# Altium schematic symbol library painel_meb.SCHLIB: 16 symbols
Pins are listed as number, name and electrical type; pins without a type are passive.

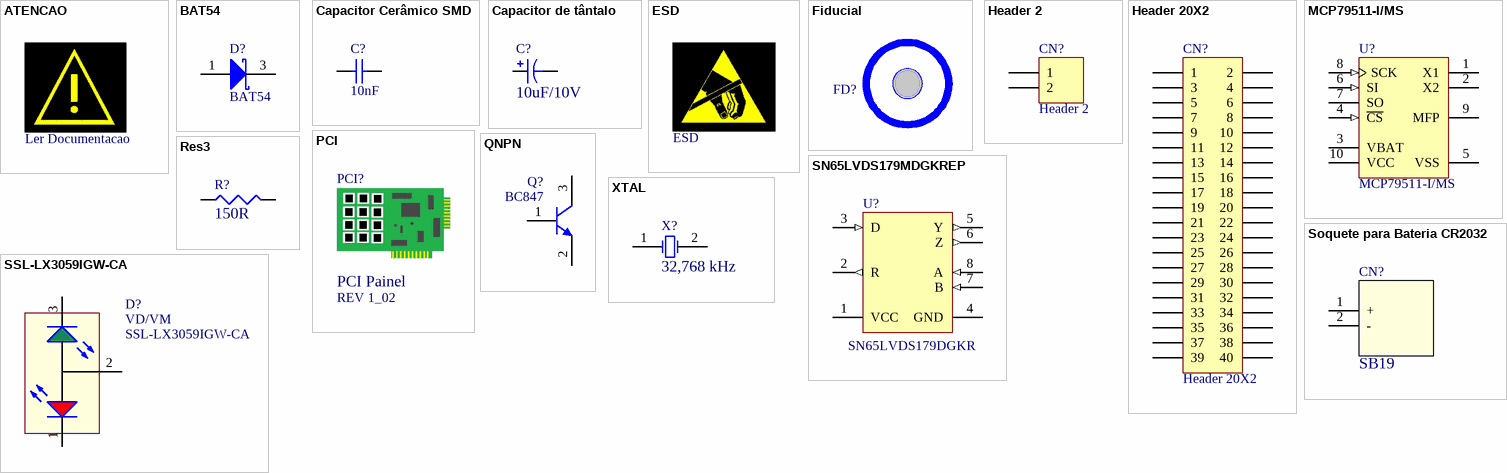
[diagram p0: symbols ATENCAO to XTAL]

## ATENCAO
designator AT?, comment Valor: Ler Documentacao  (hidden comment: ##nl)
ATENCAO
footprint LEIA_DOCUMENTACAO

## BAT54
designator D?, comment Part number: BAT54  (hidden comment: 04.0100)
Diodo Schottky; Fabricante: FAIRCHILD; Grupo: 04
footprint SOT23-3N - BAT54FAIRCHILD (SOT23, 3-Leads, Body 2.9x1.3mm, Pitch 0.95mm, Lead Span 2.5mm, IPC Medium Density)
pins: 1 A, 3 K

## Capacitor Cerâmico SMD
designator C?  Valor: 10nF  (hidden comment: Capacitor Cerâmico SMD)
footprint C0805 (Chip Capacitor; Body 2.0 x 1.2 mm (LxW typ))
footprint 1812 (Chip Capacitor; Body 4.5 x 3.2 mm (LxW typ))
footprint 1825 (Chip Capacitor; Body 4.5 x 6.4 mm (LxW typ))
footprint C2225 (Chip Capacitor; Body 5.6 x 6.4 mm (LxW typ))
footprint 2220 (Chip Capacitor; Body 5.7 x 5.0 mm (LxW typ))
footprint 0603 - CAP (Chip Capacitor, 2-Leads, Body 1,6x0,8mm, IPC Medium Density)
footprint 0805(cap)
footprint 1206 - CAP (Capacitor)
footprint 0402 (Chip Capacitor; Body 1.0 x 0.5 mm (LxW typ))
footprint 0603 - CAP - montagem na maquina (Chip Capacitor, 2-Leads, Body 1,6x0,8mm, IPC Medium Density)
pins: 1, 2
1 alternate drawing of the same symbol

## Capacitor de tântalo
designator C?  Valor: 10uF/10V  (hidden comment: Capacitor de tântalo)
Grupo: 02
footprint CASE-A (Capacitor de tântalo)
footprint CASE-B (Capacitor de tântalo)
footprint CASE-D (Molded Capacitor, 2-Leads, Body 7,3x4,3mm, IPC Low Density)
footprint CASE-E (Molded Capacitor, 2-Leads, Body 7,3x4,3mm, IPC Low Density)
footprint CASE-C (Chip Capacitor, 2-Leads, Body 6,0x3,2mm, IPC Medium Density)
pins: 1, 2
1 alternate drawing of the same symbol

## ESD
designator ESD?, comment ##nl  (value not drawn)
ESD; Valor: ESD
footprint ESTATICA

## Fiducial
designator FD?, comment ##nl  (value not drawn)
Fiducial; Valor: *
footprint FIDUCIAL

## Header 2
designator CN?
Header, 2-Pin; LatestRevisionDate: 17-Jul-2002; LatestRevisionNote: Re-released for DXP Platform.; Publisher: Altium Limited
footprint HDR1X2 (Connector; Header; 2 Position)
signal-integrity model Connector
footprint 2 vias - 2,54mm (Connector; Header; 13 Position)
pins: 1, 2

## Header 20X2
designator CN?
Header, 20-Pin, Dual row; LatestRevisionDate: 17-Jul-2002; LatestRevisionNote: Re-released for DXP Platform.; Publisher: Altium Limited
footprint HDR2X20 (Connector; Header; 20x2 Position)
signal-integrity model Connector
pins: 1, 2, 3, 4, 5, 6, 7, 8, 9, 10, 11, 12, 13, 14, 15, 16, 17, 18, 19, 20, 21, 22, 23, 24, 25, 26, 27, 28, 29, 30, 31, 32, 33, 34, 35, 36, 37, 38, 39, 40

## MCP79511-I/MS
designator U?
3 V SPI Real-Time Clock Calendar with Battery Switchover, 10 MHz Communications Speed, 64 Bytes SRAM, -40 to 85 degC, 10-pin MSOP (MS10), Tube; Manufacturer: Microchip; DatasheetVersion: Rev. A; PackageVersion: C04-021C; PackageReference: MSOP-MS10; PackageDescription: 10-Lead Plastic Micro Small Outline Package, 3 x 3 mm Body, 0.5 mm Pitch; Supplier 1: Digi-Key; Supplier Part Number 1: MCP79511-I/MS-ND; Supplier 2: Newark; Supplier Part Number 2: 47T5349; Supplier 3: Mouser; Supplier Part Number 3: 579-MCP79511-I/MS; Mounting Technology: Surface Mount; PartNumber: MCP79511-I/MS; ComponentLink1Description: Manufacturer URL; ComponentLink1URL: http://www.microchip.com; ComponentLink2Description: Datasheet; ComponentLink2URL: http://ww1.microchip.com/downloads/en/DeviceDoc/22300A.pdf; ComponentLink3Description: Package Specification; ComponentLink3URL: http://www.microchip.com/stellent/groups/techpub_sg/documents/packagingspec/en012702.pdf; ComponentLink4Description: Product URL; ComponentLink4URL: http://www.microchip.com/MCP79511
footprint MCHP-MSOP-MS10_N (SOP, 10-Leads, Body 3x3mm, Pitch 0.5mm, IPC Medium Density)
footprint MCHP-MSOP-MS10_L (SOP, 10-Leads, Body 3x3mm, Pitch 0.5mm, IPC High Density)
footprint MCHP-MSOP-MS10_M (SOP, 10-Leads, Body 3x3mm, Pitch 0.5mm, IPC Low Density)
pins: 1 X1 "Xtal Input, External Oscillator Input", 2 X2 "Xtal Output", 3 VBAT (power) "Battery Backup Input (3V Typ)", 4 ~{CS} (in) "Chip Select", 5 VSS (power) "Ground", 6 SI (in) "Serial Input", 7 SO (hiz) "Serial Output", 8 SCK (in) "Serial Clock", 9 MFP (oc) "Multifunction Pin", 10 VCC (power) "+1.8V to +3.6V Power Supply"

## PCI
designator PCI?, comment Valor: PCI Painel  Rev: REV 1_02  (hidden comment: 30.????)
PCI

## QNPN
designator Q?  (value not drawn)
NPN Bipolar Transistor; Valor: BC847; Published: 8-Jun-2000; LatestRevisionDate: 17-Jul-2002; LatestRevisionNote: Re-released for DXP Platform.; PackageReference: SOT-23B; Publisher: Altium Limited; Code_JEDEC: SOT-23
footprint SOT-23B (SOT-23; 3 Leads; Body 3.0 x 2.6 mm, inc. leads (LxW max))
simulation model QNPN (NPN)
signal-integrity model NPN
pins: 1 B, 2 E, 3 C

## Res3
designator R?  Valor: 150R  (hidden comment: Res3)
Resistor; Grupo: 01
footprint 3225[1210] (Chip Resistor; Body 3.2 x 2.5 mm (LxW typ))
footprint 6332[2512] (Chip Resistor; Body 6.3 x 3.2 mm (LxW typ))
footprint 0603 (Chip Resistor, 2-Leads, Body 1,6x0,8mm, IPC Medium Density)
footprint 1206 (Resistor)
footprint CR-12 (RESISTOR CR-12)
footprint 0805(res)
footprint 2512 (Resistor)
footprint 0402 - RESISTOR (RESISTOR)
footprint 5025[2010] (Chip Resistor; Body 5.0 x 2.5 mm (LxW typ))
footprint PR01
footprint CR25 (RESISTOR CR-25)
footprint 0603 - MONTAGEM MÁQUINA (Chip Resistor, 2-Leads, Body 1,6x0,8mm, IPC Medium Density)
footprint PR02
footprint PR03
footprint 2010
footprint PR02 - EM PÉ
footprint PR05-QUAD EM PÉ
footprint PR05 - EM PÉ (Res 5W)
footprint PR05
footprint PR03 - EM PÉ
footprint CR-25 EM PÉ
pins: 1, 2

## SN65LVDS179MDGKREP
designator U?  PartNumber: SN65LVDS179DGKR  (hidden comment: SN65LVDS179MDGKREP)
400 Mbps Enhanced Product High-Speed Differential Line Driver and Receiver with LVDS, LVTTL Input and LVDS, LVTTL Output, 1 Tx and 1 Rx, -55 to +125 degC, 8-pin VSSOP (DGK), Green (RoHS & no Sb/Br); Manufacturer: Texas Instruments; ESD HBM(kV): 12; Function: Transceiver; No. of Rx: 1; Signaling Rate(Mbps): 400; SubFamily: LVDS PHY (<800Mbps); DatasheetVersion: SGLS203B; PackageVersion: revE, May-2006; PackageReference: DGK8; PackageDescription: 8-Pin Thin Small Outline Package 3 x 3 mm Body ,0.65 mm Pitch; Supplier 1: Digi-Key; Supplier Part Number 1: 296-22243-2-ND; Supplier 2: Digi-Key; Supplier Part Number 2: 296-22243-1-ND; Supplier 3: Digi-Key; Supplier Part Number 3: 296-22243-6-ND; Supplier 4: Newark; Supplier Part Number 4: 45M9838; Supplier 5: Mouser; Supplier Part Number 5: 595-65LVDS179MDGKREP; Eco-Plan: Green (RoHS & no Sb/Br); ICC(Max)(mA): 12; Input Signal: LVDS, LVTTL; No. of Tx: 1; Output Signal: LVDS, LVTTL; Mounting Technology: Surface Mount; Code_JEDEC: MO-187-AA; ComponentLink1Description: Datasheet; ComponentLink1URL: http://www.ti.com/general/docs/lit/getliterature.tsp?genericPartNumber=SN65LVDS179-EP&fileType=pdf; ComponentLink2Description: URL Link1; ComponentLink2URL: SamplesURL:http://www.ti.com/product/sn65lvds179-ep#samples
footprint DGK8_N (TSOP, 8-Leads, Body 3x3mm, Pitch 0.65mm, IPC Medium Density)
footprint DGK8_L (TSOP, 8-Leads, Body 3x3mm, Pitch 0.65mm, IPC High Density)
footprint DGK8_M (TSOP, 8-Leads, Body 3x3mm, Pitch 0.65mm, IPC Low Density)
pins: 1 VCC (power), 2 R (out), 3 D (in), 4 GND (power), 5 Y (out), 6 Z (out), 7 B (in), 8 A (in)

## Soquete para Bateria CR2032
designator CN?, comment Part number: SB19  (hidden comment: 11.0137)
Soquete para Bateria CR2032; Fabricante: METALTEX; Grupo: 11; Encapsulamento: CR2032; Datasheet: \\servidor\arquivo\Eletronica\Componentes\SB19.pdf
footprint Soquete para bateria SB19 (Soquete para bateria SB19 CR2032)
pins: 1 +, 2 -

## SSL-LX3059IGW-CA
designator D?  Valor: VD/VM  (hidden comment: SSL-LX3059IGW-CA)
Led bicolor pth 3mm verde/vermelho; Grupo: 09; Fabricante: *; Fornecedor: *; Obs: *; Datasheet: *; Encapsulamento: 3mm; Part Number: SSL-LX3059IGW-CA
footprint Led 3mm bicolor
pins: 1 KR, 2 A, 3 KG

## XTAL
designator X?  Valor: 32,768 kHz  (hidden comment: XTAL)
Cristal oscilador; Encapsulamento: HC-49/S; Fabricante: HIB; Grupo: 06; Published: 8-Jun-2000; LatestRevisionDate: 17-Jul-2002; LatestRevisionNote: Re-released for DXP Platform.; PackageReference: R38; Publisher: Altium Limited; Fornecedor: HIB; Datasheet: \\servidor\arquivo\Eletronica\Componentes\hc-49-sseries.pdf
footprint R38 (Crystal, Thru-Hole; 2 Leads; Body 3.1 x 8.2 mm (Dia.xH))
footprint HC49 (Cristal HC49)
footprint CRISTAL DT-38 (PTH)
pins: 1 OSC1, 2 OSC2